# EAGLE library part 7SEG_LED_14DIG (library sevenSegmentWatch)
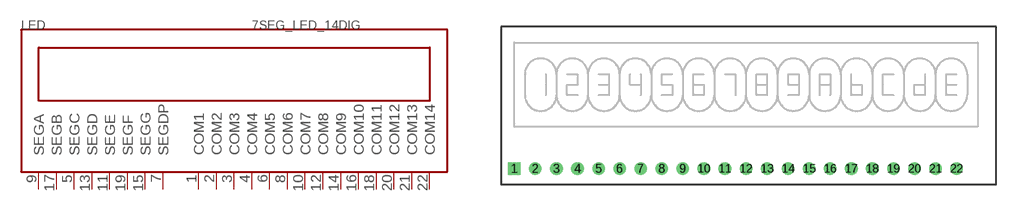
[diagram p1: symbol with the pads of 7SEG_LED_14DIG; footprint 7SEG_LED_14DIG]

Designator prefix LED

## 7SEG_LED_14DIG  [7SEG_LED_14DIG]
1  COM1
2  COM2
3  COM3
4  COM4
5  SEGC
6  COM5
7  SEGDP
8  COM6
9  SEGA
10  COM7
11  SEGE
12  COM8
13  SEGD
14  COM9
15  SEGG
16  COM10
17  SEGB
18  COM11
19  SEGF
20  COM12
21  COM13
22  COM14

## Footprint 7SEG_LED_14DIG (pad centres in mm)
drill 1.016 square: 1 -26.67,-7.62
drill 1.016 round: 2 -24.13,-7.62; 3 -21.59,-7.62; 4 -19.05,-7.62; 5 -16.51,-7.62; 6 -13.97,-7.62; 7 -11.43,-7.62; 8 -8.89,-7.62; 9 -6.35,-7.62; 10 -3.81,-7.62; 11 -1.27,-7.62; 12 1.27,-7.62; 13 3.81,-7.62; 14 6.35,-7.62; 15 8.89,-7.62; 16 11.43,-7.62; 17 13.97,-7.62; 18 16.51,-7.62; 19 19.05,-7.62; 20 21.59,-7.62; 21 24.13,-7.62; 22 26.67,-7.62